# EAGLE library part LM3150 (library LM3150)
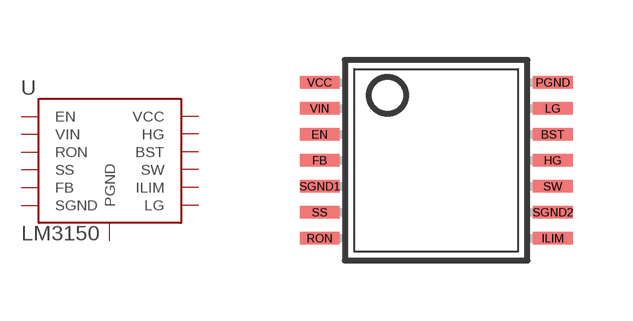
[diagram p0: symbol with the pads of TSSOP14; footprint TSSOP14]

Designator prefix U

## LM3150  [TSSOP14]
BST  BST  pas
EN  EN  in
FB  FB  in
HG  HG  out
ILIM  ILIM  in
LG  LG  out
PGND  PGND  pwr
RON  RON  in
SGND1  SGND  pwr
SGND2  SGND  pwr
SS  SS  pas
SW  SW
VCC  VCC  pas
VIN  VIN  pwr

## Footprint TSSOP14 (pad centres in mm)
Thin Shrink Small Outline Plastic 14 MAX3223-MAX3243.pdf
smd 0.991 x 0.305: BST 2.918,0.65; EN -2.918,0.65; FB -2.918,0; HG 2.918,0; ILIM 2.918,-1.95; LG 2.918,1.3; PGND 2.918,1.95; RON -2.918,-1.95; SGND1 -2.918,-0.65; SGND2 2.918,-1.3; SS -2.918,-1.3; SW 2.918,-0.65; VCC -2.918,1.95; VIN -2.918,1.3